# Altium schematic symbol library SHT40-AD1B-R2.SchLib: 1 symbol
Pins are listed as number, name and electrical type; pins without a type are passive.

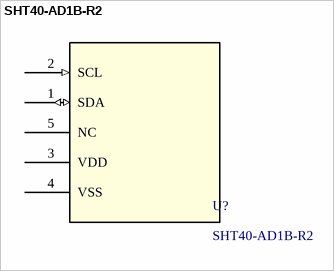
[diagram p0: symbol SHT40-AD1B-R2]

## SHT40-AD1B-R2
designator U?
Humidity, Temperature 0 ~ 100% RH I2C ±1.8% RH Surface Mount; Manufacturer_Name: Sensirion; Copyright: Copyright (C) 2026 Ultra Librarian. All rights reserved.; Manufacturer_Part_Number: SHT40-AD1B-R2; RefDes: RefDes; Type: Type
footprint SHT4x_SEN
pins: 1 SDA (io), 2 SCL (in), 3 VDD (power), 4 VSS (power), 5 NC